# EAGLE library part LM18200T_CF_INTECH (library INTech)
Pont en H pour le contrôle de moteurs
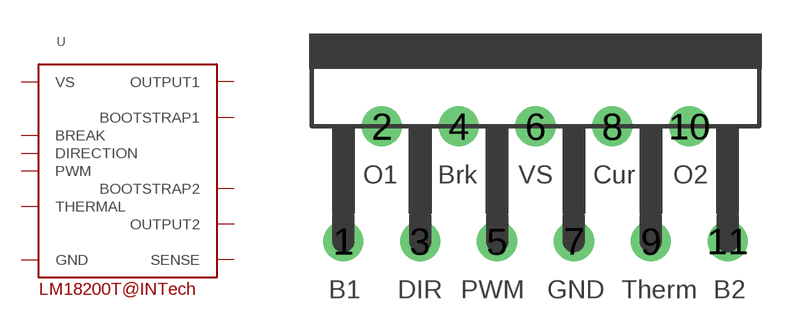
[diagram p1: symbol with the pads of LM18200T_CF_INTECH; footprint LM18200T_CF_INTECH]

Designator prefix -

## LM18200T_CF_INTECH  [LM18200T_CF_INTECH]
1  BOOTSTRAP1  in
2  OUTPUT1  out
3  DIRECTION  in
4  BREAK  in
5  PWM  in
6  VS  pwr
7  GND  pwr
8  SENSE  out
9  THERMAL  out
10  OUTPUT2  out
11  BOOTSTRAP2  in

## Footprint LM18200T_CF_INTECH (pad centres in mm)
Pont en H pour le contrôle de moteurs
drill 1.1 pad 1.778: 1 -8.5,-8.89; 2 -6.8,-3.81; 3 -5.1,-8.89; 4 -3.4,-3.81; 5 -1.7,-8.89; 6 0,-3.81; 7 1.7,-8.89; 8 3.4,-3.81; 9 5.1,-8.89; 10 6.8,-3.81; 11 8.5,-8.89